# EAGLE library part MT7620 (library blinkinlabs)
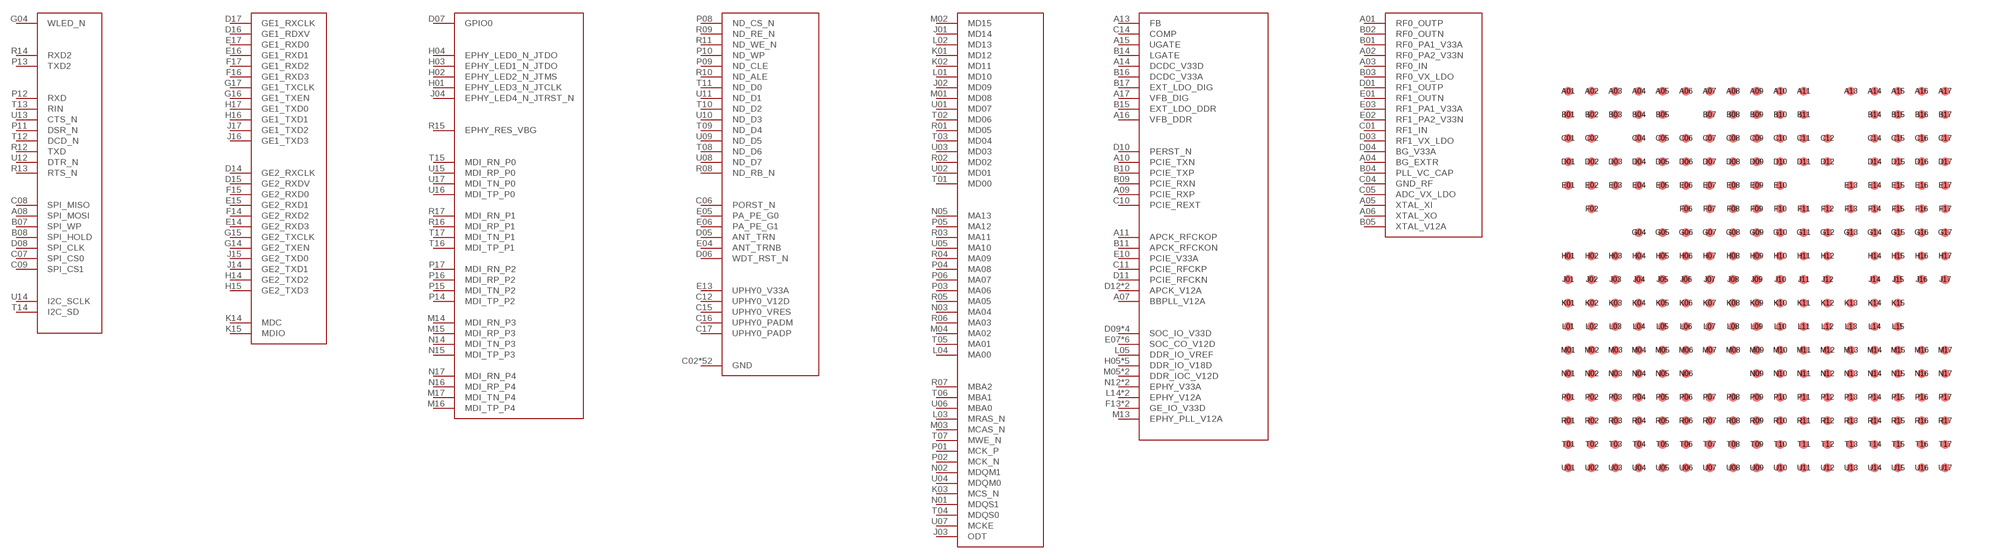
[diagram p32: symbol with the pads of MT7620; footprint MT7620]

Designator prefix -

## MT7620  [MT7620]
A01  RF0_OUTP
A02  RF0_PA2_V33N
A03  RF0_IN
A04  BG_EXTR
A05  XTAL_XI
A06  XTAL_XO
A07  BBPLL_V12A
A08  SPI_MOSI
A09  PCIE_RXP
A10  PCIE_TXN
A11  APCK_RFCKOP
A13  FB
A14  DCDC_V33D
A15  UGATE
A16  VFB_DDR
A17  VFB_DIG
B01  RF0_PA1_V33A
B02  RF0_OUTN
B03  RF0_VX_LDO
B04  PLL_VC_CAP
B05  XTAL_V12A
B07  SPI_WP
B08  SPI_HOLD
B09  PCIE_RXN
B10  PCIE_TXP
B11  APCK_RFCKON
B14  LGATE
B15  EXT_LDO_DDR
B16  DCDC_V33A
B17  EXT_LDO_DIG
C01  RF1_IN
C02  GND
C04  GND_RF
C05  ADC_VX_LDO
C06  PORST_N
C07  SPI_CS0
C08  SPI_MISO
C09  SPI_CS1
C10  PCIE_REXT
C11  PCIE_RFCKP
C12  UPHY0_V12D
C14  COMP
C15  UPHY0_VRES
C16  UPHY0_PADM
C17  UPHY0_PADP
D01  RF1_OUTP
D02  GND
D03  RF1_VX_LDO
D04  BG_V33A
D05  ANT_TRN
D06  WDT_RST_N
D07  GPIO0
D08  SPI_CLK
D09  SOC_IO_V33D
D10  PERST_N
D11  PCIE_RFCKN
D12  APCK_V12A
D14  GE2_RXCLK
D15  GE2_RXDV
D16  GE1_RDXV
D17  GE1_RXCLK
E01  RF1_OUTN
E02  RF1_PA2_V33N
E03  RF1_PA1_V33A
E04  ANT_TRNB
E05  PA_PE_G0
E06  PA_PE_G1
E07  SOC_CO_V12D
E08  SOC_CO_V12D
E09  APCK_V12A
E10  PCIE_V33A
E13  UPHY0_V33A
E14  GE2_RXD3
E15  GE2_RXD1
E16  GE1_RXD1
E17  GE1_RXD0
F02  GND
F06  GND
F07  GND
F08  GND
F09  GND
F10  GND
F11  GND
F12  GND
F13  GE_IO_V33D
F14  GE2_RXD2
F15  GE2_RXD0
F16  GE1_RXD3
F17  GE1_RXD2
G04  WLED_N
G05  SOC_IO_V33D
G06  GND
G07  GND
G08  GND
G09  GND
G10  GND
G11  GND
G12  GND
G13  GE_IO_V33D
G14  GE2_TXEN
G15  GE2_TXCLK
G16  GE1_TXEN
G17  GE1_TXCLK
H01  EPHY_LED3_N_JTCLK
H02  EPHY_LED2_N_JTMS
H03  EPHY_LED1_N_JTDO
H04  EPHY_LED0_N_JTDO
H05  DDR_IO_V18D
H06  GND
H07  GND
H08  GND
H09  GND
H10  GND
H11  GND
H12  GND
H14  GE2_TXD2
H15  GE2_TXD3
H16  GE1_TXD1
H17  GE1_TXD0
J01  MD14
J02  MD09
J03  ODT
J04  EPHY_LED4_N_JTRST_N
J05  DDR_IO_V18D
J06  GND
J07  GND
J08  GND
J09  GND
J10  GND
J11  GND
J12  GND
J14  GE2_TXD1
J15  GE2_TXD0
J16  GE1_TXD3
J17  GE1_TXD2
K01  MD12
K02  MD11
K03  MCS_N
K04  GND
K05  DDR_IO_V18D
K06  GND
K07  GND
K08  GND
K09  GND
K10  GND
K11  GND
K12  GND
K13  SOC_CO_V12D
K14  MDC
K15  MDIO
L01  MD10
L02  MD13
L03  MRAS_N
L04  MA00
L05  DDR_IO_VREF
L06  GND
L07  GND
L08  GND
L09  GND
L10  GND
L11  GND
L12  GND
L13  SOC_CO_V12D
L14  EPHY_V12A
L15  EPHY_V12A
M01  MD08
M02  MD15
M03  MCAS_N
M04  MA02
M05  DDR_IOC_V12D
M06  GND
M07  GND
M08  GND
M09  SOC_CO_V12D
M10  SOC_IO_V33D
M11  GND
M12  GND
M13  EPHY_PLL_V12A
M14  MDI_RN_P3
M15  MDI_RP_P3
M16  MDI_TP_P4
M17  MDI_TN_P4
N01  MDQS1
N02  MDQM1
N03  MA04
N04  DDR_IOC_V12D
N05  MA13
N06  DDR_IO_V18D
N09  SOC_CO_V12D
N10  SOC_IO_V33D
N11  GND
N12  EPHY_V33A
N13  EPHY_V33A
N14  MDI_TN_P3
N15  MDI_TP_P3
N16  MDI_RP_P4
N17  MDI_RN_P4
P01  MCK_P
P02  MCK_N
P03  MA06
P04  MA08
P05  MA12
P06  MA07
P07  DDR_IO_V18D
P08  ND_CS_N
P09  ND_CLE
P10  ND_WP
P11  DSR_N
P12  RXD
P13  TXD2
P14  MDI_TP_P2
P15  MDI_TN_P2
P16  MDI_RP_P2
P17  MDI_RN_P2
R01  MD05
R02  MD02
R03  MA11
R04  MA09
R05  MA05
R06  MA03
R07  MBA2
R08  ND_RB_N
R09  ND_RE_N
R10  ND_ALE
R11  ND_WE_N
R12  TXD
R13  RTS_N
R14  RXD2
R15  EPHY_RES_VBG
R16  MDI_RP_P1
R17  MDI_RN_P1
T01  MD00
T02  MD06
T03  MD04
T04  MDQS0
T05  MA01
T06  MBA1
T07  MWE_N
T08  ND_D6
T09  ND_D4
T10  ND_D2
T11  ND_D0
T12  DCD_N
T13  RIN
T14  I2C_SD
T15  MDI_RN_P0
T16  MDI_TP_P1
T17  MDI_TN_P1
U01  MD07
U02  MD01
U03  MD03
U04  MDQM0
U05  MA10
U06  MBA0
U07  MCKE
U08  ND_D7
U09  ND_D5
U10  ND_D3
U11  ND_D1
U12  DTR_N
U13  CTS_N
U14  I2C_SCLK
U15  MDI_RP_P0
U16  MDI_TP_P0
U17  MDI_TN_P0

## Footprint MT7620 (pad centres in mm)
smd 0.25 x 0.25: A01 0,0; A02 0.65,0; A03 1.3,0; A04 1.95,0; A05 2.6,0; A06 3.25,0; A07 3.9,0; A08 4.55,0; A09 5.2,0; A10 5.85,0; A11 6.5,0; A13 7.8,0; A14 8.45,0; A15 9.1,0; A16 9.75,0; A17 10.4,0; B01 0,-0.65; B02 0.65,-0.65; B03 1.3,-0.65; B04 1.95,-0.65; B05 2.6,-0.65; B07 3.9,-0.65; B08 4.55,-0.65; B09 5.2,-0.65; B10 5.85,-0.65; B11 6.5,-0.65; B14 8.45,-0.65; B15 9.1,-0.65; B16 9.75,-0.65; B17 10.4,-0.65; C01 0,-1.3; C02 0.65,-1.3; C04 1.95,-1.3; C05 2.6,-1.3; C06 3.25,-1.3; C07 3.9,-1.3; C08 4.55,-1.3; C09 5.2,-1.3; C10 5.85,-1.3; C11 6.5,-1.3; C12 7.15,-1.3; C14 8.45,-1.3; C15 9.1,-1.3; C16 9.75,-1.3; C17 10.4,-1.3; D01 0,-1.95; D02 0.65,-1.95; D03 1.3,-1.95; D04 1.95,-1.95; D05 2.6,-1.95; D06 3.25,-1.95; D07 3.9,-1.95; D08 4.55,-1.95; D09 5.2,-1.95; D10 5.85,-1.95; D11 6.5,-1.95; D12 7.15,-1.95; D14 8.45,-1.95; D15 9.1,-1.95; D16 9.75,-1.95; D17 10.4,-1.95; E01 0,-2.6; E02 0.65,-2.6; E03 1.3,-2.6; E04 1.95,-2.6; E05 2.6,-2.6; E06 3.25,-2.6; E07 3.9,-2.6; E08 4.55,-2.6; E09 5.2,-2.6; E10 5.85,-2.6; E13 7.8,-2.6; E14 8.45,-2.6; E15 9.1,-2.6; E16 9.75,-2.6; E17 10.4,-2.6; F02 0.65,-3.25; F06 3.25,-3.25; F07 3.9,-3.25; F08 4.55,-3.25; F09 5.2,-3.25; F10 5.85,-3.25; F11 6.5,-3.25; F12 7.15,-3.25; F13 7.8,-3.25; F14 8.45,-3.25; F15 9.1,-3.25; F16 9.75,-3.25; F17 10.4,-3.25; G04 1.95,-3.9; G05 2.6,-3.9; G06 3.25,-3.9; G07 3.9,-3.9; G08 4.55,-3.9; G09 5.2,-3.9; G10 5.85,-3.9; G11 6.5,-3.9; G12 7.15,-3.9; G13 7.8,-3.9; G14 8.45,-3.9; G15 9.1,-3.9; G16 9.75,-3.9; G17 10.4,-3.9; H01 0,-4.55; H02 0.65,-4.55; H03 1.3,-4.55; H04 1.95,-4.55; H05 2.6,-4.55; H06 3.25,-4.55; H07 3.9,-4.55; H08 4.55,-4.55; H09 5.2,-4.55; H10 5.85,-4.55; H11 6.5,-4.55; H12 7.15,-4.55; H14 8.45,-4.55; H15 9.1,-4.55; H16 9.75,-4.55; H17 10.4,-4.55; J01 0,-5.2; J02 0.65,-5.2; J03 1.3,-5.2; J04 1.95,-5.2; J05 2.6,-5.2; J06 3.25,-5.2; J07 3.9,-5.2; J08 4.55,-5.2; J09 5.2,-5.2; J10 5.85,-5.2; J11 6.5,-5.2; J12 7.15,-5.2; J14 8.45,-5.2; J15 9.1,-5.2; J16 9.75,-5.2; J17 10.4,-5.2; K01 0,-5.85; K02 0.65,-5.85; K03 1.3,-5.85; K04 1.95,-5.85; K05 2.6,-5.85; K06 3.25,-5.85; K07 3.9,-5.85; K08 4.55,-5.85; K09 5.2,-5.85; K10 5.85,-5.85; K11 6.5,-5.85; K12 7.15,-5.85; K13 7.8,-5.85; K14 8.45,-5.85; K15 9.1,-5.85; L01 0,-6.5; L02 0.65,-6.5; L03 1.3,-6.5; L04 1.95,-6.5; L05 2.6,-6.5; L06 3.25,-6.5; L07 3.9,-6.5; L08 4.55,-6.5; L09 5.2,-6.5; L10 5.85,-6.5; L11 6.5,-6.5; L12 7.15,-6.5; L13 7.8,-6.5; L14 8.45,-6.5; L15 9.1,-6.5; M01 0,-7.15; M02 0.65,-7.15; M03 1.3,-7.15; M04 1.95,-7.15; M05 2.6,-7.15; M06 3.25,-7.15; M07 3.9,-7.15; M08 4.55,-7.15; M09 5.2,-7.15; M10 5.85,-7.15; M11 6.5,-7.15; M12 7.15,-7.15; M13 7.8,-7.15; M14 8.45,-7.15; M15 9.1,-7.15; M16 9.75,-7.15; M17 10.4,-7.15; N01 0,-7.8; N02 0.65,-7.8; N03 1.3,-7.8; N04 1.95,-7.8; N05 2.6,-7.8; N06 3.25,-7.8; N09 5.2,-7.8; N10 5.85,-7.8; N11 6.5,-7.8; N12 7.15,-7.8; N13 7.8,-7.8; N14 8.45,-7.8; N15 9.1,-7.8; N16 9.75,-7.8; N17 10.4,-7.8; P01 0,-8.45; P02 0.65,-8.45; P03 1.3,-8.45; P04 1.95,-8.45; P05 2.6,-8.45; P06 3.25,-8.45; P07 3.9,-8.45; P08 4.55,-8.45; P09 5.2,-8.45; P10 5.85,-8.45; P11 6.5,-8.45; P12 7.15,-8.45; P13 7.8,-8.45; P14 8.45,-8.45; P15 9.1,-8.45; P16 9.75,-8.45; P17 10.4,-8.45; R01 0,-9.1; R02 0.65,-9.1; R03 1.3,-9.1; R04 1.95,-9.1; R05 2.6,-9.1; R06 3.25,-9.1; R07 3.9,-9.1; R08 4.55,-9.1; R09 5.2,-9.1; R10 5.85,-9.1; R11 6.5,-9.1; R12 7.15,-9.1; R13 7.8,-9.1; R14 8.45,-9.1; R15 9.1,-9.1; R16 9.75,-9.1; R17 10.4,-9.1; T01 0,-9.75; T02 0.65,-9.75; T03 1.3,-9.75; T04 1.95,-9.75; T05 2.6,-9.75; T06 3.25,-9.75; T07 3.9,-9.75; T08 4.55,-9.75; T09 5.2,-9.75; T10 5.85,-9.75; T11 6.5,-9.75; T12 7.15,-9.75; T13 7.8,-9.75; T14 8.45,-9.75; T15 9.1,-9.75; T16 9.75,-9.75; T17 10.4,-9.75; U01 0,-10.4; U02 0.65,-10.4; U03 1.3,-10.4; U04 1.95,-10.4; U05 2.6,-10.4; U06 3.25,-10.4; U07 3.9,-10.4; U08 4.55,-10.4; U09 5.2,-10.4; U10 5.85,-10.4; U11 6.5,-10.4; U12 7.15,-10.4; U13 7.8,-10.4; U14 8.45,-10.4; U15 9.1,-10.4; U16 9.75,-10.4; U17 10.4,-10.4